# Altium schematic symbol library TASK1.2_Schlib.SchLib: 2 symbols
Pins are listed as number, name and electrical type; pins without a type are passive.

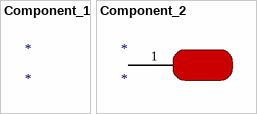
[diagram p0: symbols Component_1 to Component_2]

## Component_1
designator *

## Component_2
designator *
footprint SMD PAD 3x2mm
pins: 1